# Altium integrated library mod_duo_x.IntLib: 41 symbols (part 1 of 2)
Pins are listed as number, name and electrical type; pins without a type are passive.

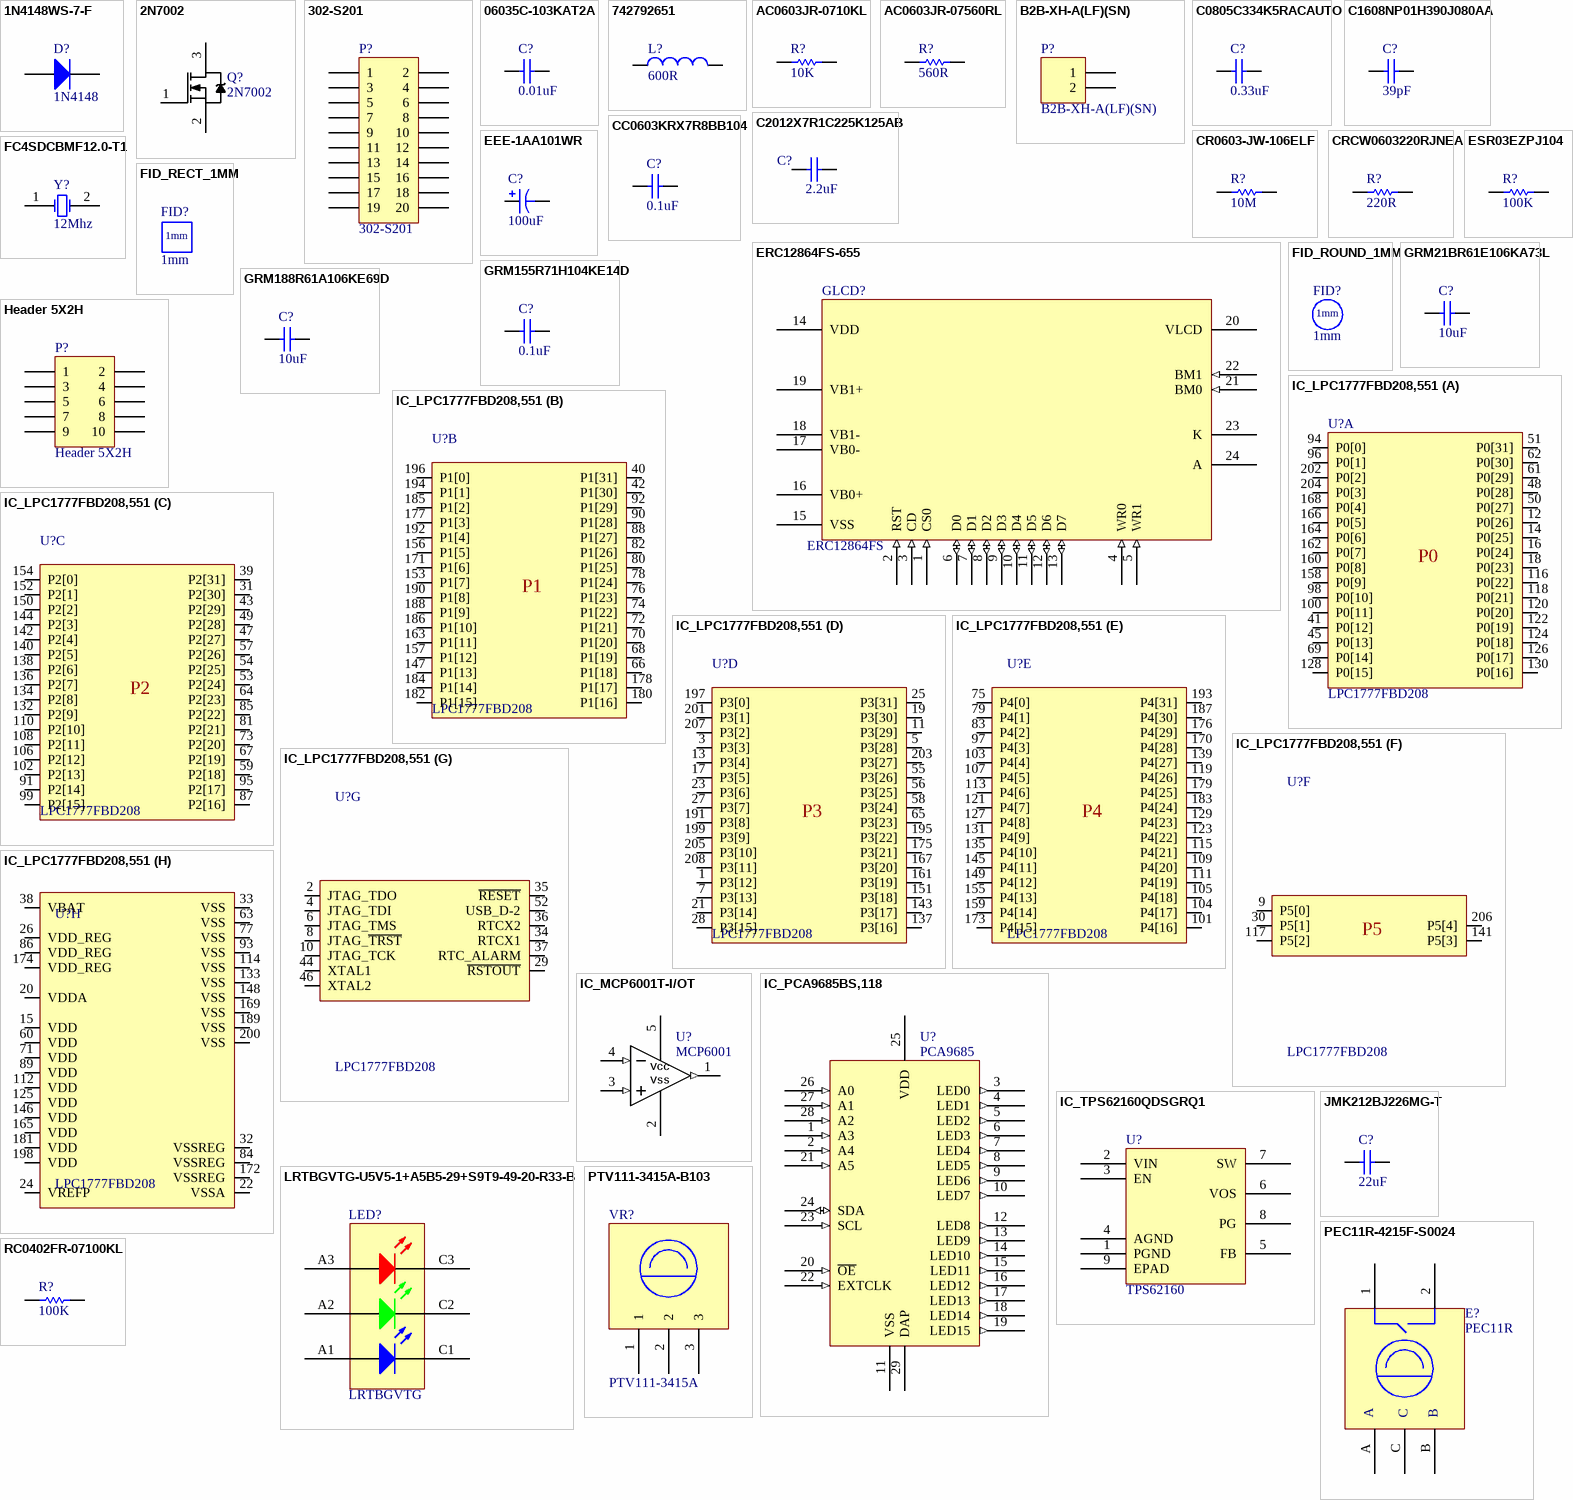
[diagram p0: symbols 1N4148WS-7-F to RC0402FR-07100KL]

## 1N4148WS-7-F
designator D?, comment 1N4148
DIODE SWITCHING 75V 0.15A SOD323; Manufacturer 1: Diodes; Manufacturer Part Number 1: 1N4148WS-7-F; Forward Current: 300mA; Reverse Recovery Time: 4ns; Element Configuration: Single; Forward Voltage: 1.25V; Peak Reverse Current: 1uA; Peak Non-Repetitive Surge Current: 2A; Average Rectified Current: 150mA; Power Dissipation: 200mW; Polarity: Standard; Capacitance: 2pF; Supplier 1: Digi-Key; Stock 1: 557451; Pricing 1: 1=0.19, 10=0.171, 100=0.0932, 500=0.05736, 1000=0.03911 (USD); Mount: Surface Mount; Number of Pins: 2; Weight: 0.000173oz; Contact Plating: Tin,Matte; Min Operating Temperature: -65°C; Max Operating Temperature: 150°C; Max Repetitive Reverse Voltage (Vrrm): 75V; Max Forward Surge Current (Ifsm): 2A; Max Surge Current: 2A; Packaging: Tape and Reel; Recovery Time: 4ns; Package Quantity: 3000; Voltage Rating (DC): 75V; Power Rating: 200mW; Current Rating: 150mA; Output Current: 150mA; Voltage: 75V; Max Reverse Voltage (DC): 75V; Current: 2A; Length: 1.8mm; Height: 1mm; Width: 1.4mm; Radiation Hardening: No; REACH SVHC: No SVHC; Lead Free: Lead Free; ComponentLink1URL: https://datasheet.ciiva.com/16199/ds30097-16199061.pdf; ComponentLink1Description: https://datasheet.ciiva.com/16199/ds30097-16199061.pdf; ComponentLink2URL: https://datasheet.ciiva.com/16472/ds30097-16472599.pdf; ComponentLink2Description: https://datasheet.ciiva.com/16472/ds30097-16472599.pdf; ComponentLink3URL: https://datasheet.ciiva.com/1179/ds30097-1179355.pdf; ComponentLink3Description: https://datasheet.ciiva.com/1179/ds30097-1179355.pdf; ComponentLink4URL: https://datasheet.ciiva.com/8300/ds30097-8300396.pdf; ComponentLink4Description: https://datasheet.ciiva.com/8300/ds30097-8300396.pdf; ComponentLink5URL: https://datasheet.ciiva.com/911/ds30097-911741.pdf; ComponentLink5Description: https://datasheet.ciiva.com/911/ds30097-911741.pdf; ComponentLink6URL: https://datasheet.ciiva.com/911/ds30097-911742.pdf; ComponentLink6Description: https://datasheet.ciiva.com/911/ds30097-911742.pdf; ComponentLink7URL: https://datasheet.ciiva.com/25946/ds30097-25946926.pdf; ComponentLink7Description: https://datasheet.ciiva.com/25946/ds30097-25946926.pdf; ComponentLink8URL: https://datasheet.ciiva.com/911/ds30097-911743.pdf; ComponentLink8Description: https://datasheet.ciiva.com/911/ds30097-911743.pdf; Supplier Part Number 1: 1N4148WS-FDICT-ND
footprint SOD-323
pins: 1 K, 2 A

## 2N7002
designator Q?
MOSFET N-CH 60V 115MA SOT-23; Manufacturer 1: ON Semiconductor / Fairchild; Max Power Dissipation: 200mW; Drain to Source Resistance: 1.2R; Gate to Source Voltage (Vgs): 20V; Nominal Vgs: 2.1V; Number of Elements: 1; Element Configuration: Single; Input Capacitance: 50pF; Rds On Max: 7.5R; On-State Resistance: 5.3R; Supplier 1: Digi-Key; Manufacturer Part Number 1: 2N7002; Stock 1: 111118; Pricing 1: 1=0.33, 10=0.304, 100=0.17, 500=0.09108, 1000=0.06193 (USD); Mount: Surface Mount; Case/Package: SOT-23; Number of Pins: 3; Contact Plating: Tin,Matte; Min Operating Temperature: -55°C; Max Operating Temperature: 150°C; Continuous Drain Current (ID): 115mA; Packaging: Tape and Reel; Package Quantity: 1; Drain to Source Voltage (Vdss): 60V; Drain to Source Breakdown Voltage: 60V; Power Dissipation: 200mW; Threshold Voltage: 2.1V; Voltage Rating (DC): 60V; Current Rating: 115mA; Dual Supply Voltage: 60V; Current: 115mA; Voltage: 60V; Length: 2.92mm; Height: 0.93mm; Width: 3.05mm; Radiation Hardening: No; REACH SVHC: No SVHC; Lead Free: Lead Free; ComponentLink1URL: https://datasheet.ciiva.com/931/2n7000-931777.pdf; ComponentLink1Description: https://datasheet.ciiva.com/931/2n7000-931777.pdf; ComponentLink2URL: https://datasheet.ciiva.com/27746/47-0120-27746881.pdf; ComponentLink2Description: https://datasheet.ciiva.com/27746/47-0120-27746881.pdf; ComponentLink3URL: https://datasheet.ciiva.com/1254/2n7002-1254451.pdf; ComponentLink3Description: https://datasheet.ciiva.com/1254/2n7002-1254451.pdf; ComponentLink4URL: https://datasheet.ciiva.com/15137/getdatasheetpartid-93547-15137771.pdf; ComponentLink4Description: https://datasheet.ciiva.com/15137/getdatasheetpartid-93547-15137771.pdf; ComponentLink5URL: https://datasheet.ciiva.com/931/2n7000-931762.pdf; ComponentLink5Description: https://datasheet.ciiva.com/931/2n7000-931762.pdf; ComponentLink6URL: https://datasheet.ciiva.com/931/2n7000-931763.pdf; ComponentLink6Description: https://datasheet.ciiva.com/931/2n7000-931763.pdf; ComponentLink7URL: https://datasheet.ciiva.com/931/2n7000-931764.pdf; ComponentLink7Description: https://datasheet.ciiva.com/931/2n7000-931764.pdf; ComponentLink8URL: https://datasheet.ciiva.com/1254/660093-1254452.pdf; ComponentLink8Description: https://datasheet.ciiva.com/1254/660093-1254452.pdf; ComponentLink9URL: https://datasheet.ciiva.com/1188/660093-1188359.pdf; ComponentLink9Description: https://datasheet.ciiva.com/1188/660093-1188359.pdf; ComponentLink10URL: https://datasheet.ciiva.com/1188/660093-1188361.pdf; ComponentLink10Description: https://datasheet.ciiva.com/1188/660093-1188361.pdf; ComponentLink11URL: https://datasheet.ciiva.com/17007/2n7002-17007243.pdf; ComponentLink11Description: https://datasheet.ciiva.com/17007/2n7002-17007243.pdf; ComponentLink12URL: https://datasheet.ciiva.com/3304/nds7002a-3304380.pdf; ComponentLink12Description: https://datasheet.ciiva.com/3304/nds7002a-3304380.pdf; ComponentLink13URL: https://datasheet.ciiva.com/3304/nds7002a-3304381.pdf; ComponentLink13Description: https://datasheet.ciiva.com/3304/nds7002a-3304381.pdf; ComponentLink14URL: https://datasheet.ciiva.com/22655/660093-22655230.pdf; ComponentLink14Description: https://datasheet.ciiva.com/22655/660093-22655230.pdf; Supplier Part Number 1: 2N7002NCT-ND
footprint SOT23-3N (SOT23, 3-Leads, Body 2.9x1.3mm, Pitch 0.95mm, Lead Span 2.5mm, IPC Medium Density)
pins: 1 G, 2 S, 3 D

## 302-S201
designator P?
CONN HEADER VERT 20POS GOLD; Manufacturer 1: On-Shore Technology; Number of Positions: 20; Connector Type: Male Pin; Pitch: 0.1inch; Supplier 1: Digi-Key; Manufacturer Part Number 1: 302-S201; Stock 1: 43732; Pricing 1: 1=0.47, 10=0.448, 160=0.31363, 640=0.2688, 1120=0.224, 5120=0.192, 10080=0.1792 (USD); Mount: Through Hole; Colour: Black; Contact Plating: Gold; Number of Rows: 2; Packaging: Tray; Termination: Solder; Row Spacing: 0.1inch; ComponentLink1URL: https://datasheet.ciiva.com/742/302-sxxx-742190.pdf; ComponentLink1Description: https://datasheet.ciiva.com/742/302-sxxx-742190.pdf; Supplier Part Number 1: ED10524-ND
footprint 302-S201
pins: 1, 2, 3, 4, 5, 6, 7, 8, 9, 10, 11, 12, 13, 14, 15, 16, 17, 18, 19, 20

## 06035C-103KAT2A
designator C?, comment 0.01uF
CAP CER 10000PF 50V X7R 0603; Manufacturer 1: Kyocera AVX; Manufacturer Part Number 1: 06035C-103KAT2A; Dielectric Material: Ceramic; Tolerance: 10%; Capacitance: 10nF; Dissipation Factor: 2.5%; Insulation Resistance: 100GR; Supplier 1: Digi-Key; Stock 1: 40000; Pricing 1: 1=0.1, 10=0.075, 100=0.0334, 500=0.02388, 1000=0.01877 (USD); Mount: Surface Mount,PCB; Case/Package: 0603; Number of Pins: 2; Case Code (Metric): 1608; Case Code (Imperial): 0603; Contact Plating: Tin,Matte; Min Operating Temperature: -55°C; Max Operating Temperature: 125°C; Dielectric: X7R; Voltage Rating (DC): 50V; Packaging: Tape and Reel; Voltage: 50V; Voltage Rating: 50V; Package Quantity: 1; Termination: SMD/SMT; Length: 1.6mm; Height: 0.9mm; Width: 0.032inch; Depth: 0.81mm; Thickness: 0.035inch; Radiation Hardening: No; REACH SVHC: No SVHC; Lead Free: Lead Free; ComponentLink1URL: https://datasheet.ciiva.com/1124/1679506-1124848.pdf; ComponentLink1Description: https://datasheet.ciiva.com/1124/1679506-1124848.pdf; ComponentLink2URL: https://datasheet.ciiva.com/2987/cx7r-2987824.pdf; ComponentLink2Description: https://datasheet.ciiva.com/2987/cx7r-2987824.pdf; ComponentLink3URL: https://datasheet.ciiva.com/150/cx7r-150227.pdf; ComponentLink3Description: https://datasheet.ciiva.com/150/cx7r-150227.pdf; ComponentLink4URL: https://datasheet.ciiva.com/150/cx7r-150228.pdf; ComponentLink4Description: https://datasheet.ciiva.com/150/cx7r-150228.pdf; ComponentLink5URL: https://datasheet.ciiva.com/150/cx7r-150229.pdf; ComponentLink5Description: https://datasheet.ciiva.com/150/cx7r-150229.pdf; ComponentLink6URL: https://datasheet.ciiva.com/16209/cx7r-16209238.pdf; ComponentLink6Description: https://datasheet.ciiva.com/16209/cx7r-16209238.pdf; ComponentLink7URL: https://datasheet.ciiva.com/15212/getdatasheetpartid-87506-15212295.pdf; ComponentLink7Description: https://datasheet.ciiva.com/15212/getdatasheetpartid-87506-15212295.pdf; ComponentLink8URL: https://datasheet.ciiva.com/5423/cx7r-218113-5423178.pdf; ComponentLink8Description: https://datasheet.ciiva.com/5423/cx7r-218113-5423178.pdf; ComponentLink9URL: https://datasheet.ciiva.com/7855/1679506-7855082.pdf; ComponentLink9Description: https://datasheet.ciiva.com/7855/1679506-7855082.pdf; ComponentLink10URL: https://datasheet.ciiva.com/14585/70001075-14585146.pdf; ComponentLink10Description: https://datasheet.ciiva.com/14585/70001075-14585146.pdf; ComponentLink11URL: https://datasheet.ciiva.com/25901/cx7r-25901100.pdf; ComponentLink11Description: https://datasheet.ciiva.com/25901/cx7r-25901100.pdf; ComponentLink12URL: https://datasheet.ciiva.com/1124/1679506-1124847.pdf; ComponentLink12Description: https://datasheet.ciiva.com/1124/1679506-1124847.pdf; ComponentLink13URL: https://datasheet.ciiva.com/2987/cx7r-2987823.pdf; ComponentLink13Description: https://datasheet.ciiva.com/2987/cx7r-2987823.pdf; Supplier Part Number 1: 478-1227-1-ND
footprint CAPC1608N (Chip Capacitor, Body 1.6x0.8mm, IPC Medium Density)
pins: 1, 2

## 742792651
designator L?, comment 600R
FERRITE BEAD 600 OHM 1.0A 0603; Manufacturer 1: Wurth Electronics; Manufacturer Part Number 1: 742792651; Tolerance: 25%; Current Rating: 1A; Number of Lines: 1; DC Resistance (DCR): 200mR; Test Frequency: 100MHz; Inductance: 0.36h; Supplier 1: Digi-Key; Description 1: FERRITE BEAD 600 OHM 1.0A 0603; Stock 1: 281795; Pricing 1: 1=0.17, 50=0.168, 100=0.155, 500=0.148, 1000=0.141, 2000=0.134 (USD); Mount: Surface Mount; Case/Package: SMD/SMT; Weight: 0.000141oz; Case Code (Metric): 1608; Case Code (Imperial): 0603; Material: Ferrite; Core Material: Ferrite; Min Operating Temperature: -55°C; Max Operating Temperature: 125°C; Package Quantity: 1; Packaging: Tape and Reel; Impedance: 600R; Max Current Rating: 1A; Max DC Current: 1A; Termination: SMD/SMT; Resistance: 200mR; Length: 1.6mm; Height: 0.8mm; Width: 0.8mm; Depth: 0.8mm; REACH SVHC: Unknown; Lead Free: Lead Free; ComponentLink1URL: https://datasheet.ciiva.com/11803/0900766b80d2e079-11803680.pdf; ComponentLink1Description: https://datasheet.ciiva.com/11803/0900766b80d2e079-11803680.pdf; ComponentLink2URL: https://datasheet.ciiva.com/1475/1705833-1475349.pdf; ComponentLink2Description: https://datasheet.ciiva.com/1475/1705833-1475349.pdf; ComponentLink3URL: https://datasheet.ciiva.com/1013/742792651-1013527.pdf; ComponentLink3Description: https://datasheet.ciiva.com/1013/742792651-1013527.pdf; ComponentLink4URL: https://datasheet.ciiva.com/4940/742792651-72243-4940492.pdf; ComponentLink4Description: https://datasheet.ciiva.com/4940/742792651-72243-4940492.pdf; ComponentLink5URL: https://datasheet.ciiva.com/1013/742792651-1013528.pdf; ComponentLink5Description: https://datasheet.ciiva.com/1013/742792651-1013528.pdf; ComponentLink6URL: https://datasheet.ciiva.com/1013/742792651-1013529.pdf; ComponentLink6Description: https://datasheet.ciiva.com/1013/742792651-1013529.pdf; ComponentLink7URL: https://datasheet.ciiva.com/22711/1705833-22711420.pdf; ComponentLink7Description: https://datasheet.ciiva.com/22711/1705833-22711420.pdf; Supplier Part Number 1: 732-1593-6-ND
footprint INDC1608N (Chip Inductor, Body 1.6x0.8mm, IPC Medium Density)
pins: 1, 2

## AC0603JR-0710KL
designator R?, comment 10K
RES SMD 10K OHM 5% 1/10W 0603; Manufacturer 1: Yageo; Manufacturer Part Number 1: AC0603JR-0710KL; Voltage Rating: 50V; Resistance: 10kR; Power Rating: 100mW; Temperature Coefficient: 100ppm/°C; Supplier 1: Digi-Key; Stock 1: 60451; Pricing 1: 1=0.1, 10=0.032, 100=0.0131, 1000=0.00588, 2500=0.0051 (USD); Case/Package: 0603; Case Code (Imperial): 0603; Case Code (Metric): 1608; Min Operating Temperature: -55°C; Max Operating Temperature: 155°C; Packaging: Tape and Reel; Tolerance: 5%; Package Quantity: 1; Composition: Thick Film; Termination: SMD/SMT; Number of Terminations: 2; Military Standard: Not; Max Power Dissipation: 100mW; Features: Moisture Resistant,Automotive AEC-Q200,Anti-Sulfur; Length: 0.063inch; Height: 0.022inch; Width: 0.031inch; Depth: 0.8mm; Lead Free: Lead Free; ComponentLink1URL: https://datasheet.ciiva.com/5562/pyu-ac-51-rohs-l-2-5562553.pdf; ComponentLink1Description: https://datasheet.ciiva.com/5562/pyu-ac-51-rohs-l-2-5562553.pdf; Supplier Part Number 1: 311-10KLECT-ND
footprint RESC1608N (Chip Resistor, Body 1.6x0.8mm, IPC Medium Density)
pins: 1, 2

## AC0603JR-07560RL
designator R?, comment 560R
RES SMD 560 OHM 5% 1/10W 0603; Manufacturer 1: Yageo; Manufacturer Part Number 1: AC0603JR-07560RL; Power Rating: 100mW; Voltage Rating: 50V; Temperature Coefficient: 100ppm/°C; Supplier 1: Digi-Key; Stock 1: 24630; Pricing 1: 1=0.1, 10=0.026, 100=0.0107, 1000=0.00478, 2500=0.00415 (USD); Case/Package: 0603; Case Code (Imperial): 0603; Case Code (Metric): 1608; Min Operating Temperature: -55°C; Max Operating Temperature: 155°C; Packaging: Tape and Reel; Resistance: 560R; Tolerance: 5%; Composition: Thick Film; Number of Terminations: 2; Termination: SMD/SMT; Max Power Dissipation: 100mW; Length: 0.063inch; Height: 0.022inch; Width: 0.031inch; ComponentLink1URL: http://www.yageo.com/NewPortal/yageodocoutput?fileName=/pdf/R-Chip/PYu-AC_51_RoHS_L_6.pdf; ComponentLink1Description: http://www.yageo.com/NewPortal/yageodocoutput?fileName=/pdf/R-Chip/PYu-AC_51_RoHS_L_6.pdf; ComponentLink2URL: http://www.mouser.com/ds/2/447/yageodocoutput-1111992.pdf; ComponentLink2Description: http://www.mouser.com/ds/2/447/yageodocoutput-1111992.pdf; Supplier Part Number 1: YAG3681CT-ND
footprint RESC1608N (Chip Resistor, Body 1.6x0.8mm, IPC Medium Density)
pins: 1, 2

## B2B-XH-A(LF)(SN)
designator P?
CONN HEADER XH TOP 2POS 2.5MM; Manufacturer 1: JST; Number of Positions: 2; Connector Type: Male Pin; Current Rating: 3A; Contact Resistance: 20mR; Voltage Rating: 250V; Insulation Resistance: 1GR; Wire/Cable Gauge: 22AWG; Supplier 1: Digi-Key; Manufacturer Part Number 1: B2B-XH-A(LF)(SN); Stock 1: 356617; Pricing 1: 1=0.15, 10=0.141, 100=0.0868, 500=0.07182, 1000=0.06284, 5000=0.05387, 10000=0.05237 (USD); Mount: Through Hole; Contact Plating: Copper,Tin,Lead; Colour: Natural; Contact Material: Brass; Housing Colour: White; Housing Material: Polyamide; Min Operating Temperature: -25°C; Max Operating Temperature: 85°C; Number of Rows: 1; Packaging: Bulk; Termination: Solder; Fastening Type: Detent; Max Current Rating: 3A; Voltage Rating (AC): 250V; Max Voltage Rating (AC): 250V; Number of Contacts: 2; Max Voltage Rating (DC): 250V; Orientation: Straight; Length: 7.4mm; Pitch: 2.5mm; Lead Pitch: 2.5mm; Depth: 5.75mm; REACH SVHC: No SVHC; Lead Free: Lead Free; ComponentLink1URL: https://datasheet.ciiva.com/26894/getdatasheetpartid-640357-26894434.pdf; ComponentLink1Description: https://datasheet.ciiva.com/26894/getdatasheetpartid-640357-26894434.pdf; ComponentLink2URL: https://datasheet.ciiva.com/11746/0900766b8082653e-11746979.pdf; ComponentLink2Description: https://datasheet.ciiva.com/11746/0900766b8082653e-11746979.pdf; ComponentLink3URL: https://datasheet.ciiva.com/26894/getdatasheetpartid-385291-26894760.pdf; ComponentLink3Description: https://datasheet.ciiva.com/26894/getdatasheetpartid-385291-26894760.pdf; ComponentLink4URL: https://datasheet.ciiva.com/8052/5448-8052024.pdf; ComponentLink4Description: https://datasheet.ciiva.com/8052/5448-8052024.pdf; ComponentLink5URL: https://datasheet.ciiva.com/20207/523653-20207167.pdf; ComponentLink5Description: https://datasheet.ciiva.com/20207/523653-20207167.pdf; Supplier Part Number 1: 455-2247-ND
footprint B2B-XH-A
pins: 1, 2

## C0805C334K5RACAUTO
designator C?, comment 0.33uF
CAP CER 0.33UF 50V X7R 0805; Manufacturer 1: Kemet; Manufacturer Part Number 1: C0805C334K5RACAUTO; Description 1: Multilayer Ceramic Capacitors MLCC - SMD/SMT 0.33uF 50volts 10% X7R; Capacitance - nF: 330 nF; Capacitance - pF: 330000 pF; Case Height: 0.9 mm; Case Length: 2 mm; Case Width: 1.2 mm; Class: Class 1; Tolerance: 10 %; Temperature Coefficient / Code: +/- 15 %; Type: SMD MLCC X7R 6.3 - 250 VDC Commerical Grade; Supplier 1: Digi-Key; Stock 1: 76; Pricing 1: 1=0.21, 10=0.142, 100=0.0721, 500=0.0493, 1000=0.0436 (USD); Brand: Kemet; Capacitance: 0.33 uF; Case Code - in: 0805; Case Code - mm: 2012; Dimensions: 1.2 mm W x 2 mm L x 0.9 mm H; Dielectric: X7R; Factory Pack Quantity: 4000; Voltage Rating: 50 V; Product Category: Multilayer Ceramic Capacitors MLCC - SMD/SMT; RoHS: Details; Voltage Rating DC: 50 V; Minimum Operating Temperature: - 55 C; Maximum Operating Temperature: + 125 C; Product: Automotive MLCCs; Operating Temperature Range: - 55 C to + 125 C; Package / Case: 0805 (2012 metric); Packaging: Reel; Series: C0805C; Termination Style: SMD/SMT; ComponentLink1URL: https://datasheet.ciiva.com/7842/1776105-7842326.pdf; ComponentLink1Description: https://datasheet.ciiva.com/7842/1776105-7842326.pdf; ComponentLink2URL: https://datasheet.ciiva.com/22705/1776105-22705463.pdf; ComponentLink2Description: https://datasheet.ciiva.com/22705/1776105-22705463.pdf; Supplier Part Number 1: 399-6959-1-ND; Supplier 2: Digi-Key; Supplier Part Number 2: 1276-1808-1-ND; Manufacturer 2: Samsung; Manufacturer Part Number 2: CL21B334KAFNNNE
footprint CAPC2012N (Chip Capacitor, Body 2.0x1.3mm, IPC Medium Density)
pins: 1, 2

## C1608NP01H390J080AA
designator C?, comment 39pF
CAP CER 39PF 50V NP0 0603; Manufacturer 1: TDK; Manufacturer Part Number 1: C1608NP01H390J080AA; Tolerance: 5%; Dielectric: C0G; Supplier 1: Digi-Key; Stock 1: 1503; Pricing 1: 1=0.15, 10=0.106, 100=0.05, 500=0.03508, 1000=0.02904 (USD); Mount: Surface Mount; Case/Package: 0603; Weight: 7.1E-05oz; Case Code (Metric): 1608; Case Code (Imperial): 0603; Min Operating Temperature: -55°C; Max Operating Temperature: 150°C; Package Quantity: 4000; Packaging: Tape and Reel; Capacitance: 39pF; Voltage Rating: 50V; Termination: SMD/SMT; Voltage Rating (DC): 50V; Length: 0.063inch; Height: 0.8mm; Width: 0.031inch; Thickness: 0.035inch; Supplier Part Number 1: 445-14077-1-ND
footprint CAPC1608N (Chip Capacitor, Body 1.6x0.8mm, IPC Medium Density)
pins: 1, 2

## C2012X7R1C225K125AB
designator C?, comment 2.2uF
CAP CER 2.2UF 16V X7R 0805; Manufacturer 1: TDK; Manufacturer Part Number 1: C2012X7R1C225K125AB; Dielectric Material: Ceramic; Tolerance: 10%; Supplier 1: Digi-Key; Stock 1: 20000; Pricing 1: 1=0.28, 10=0.194, 100=0.0983, 500=0.06728, 1000=0.05951 (USD); Mount: Surface Mount; Case/Package: 0805; Number of Pins: 2; Weight: 0.000194oz; Case Code (Imperial): 0805; Case Code (Metric): 2012; Min Operating Temperature: -55°C; Max Operating Temperature: 125°C; Capacitance: 2.2uF; Dielectric: X7R; Packaging: Tape and Reel; Package Quantity: 2000; Voltage Rating: 16V; Voltage Rating (DC): 16V; Termination: SMD/SMT; Voltage: 16V; Composition: Ceramic; Length: 2mm; Height: 1.25mm; Width: 1.25mm; Depth: 1.25mm; Thickness: 0.057inch; Radiation Hardening: No; REACH SVHC: No SVHC; Lead Free: Lead Free; ComponentLink1URL: https://datasheet.ciiva.com/24219/c2012x7r1c225k125ab-265065-24219730.pdf; ComponentLink1Description: https://datasheet.ciiva.com/24219/c2012x7r1c225k125ab-265065-24219730.pdf; ComponentLink2URL: https://datasheet.ciiva.com/11788/0900766b80c1bb00-11788135.pdf; ComponentLink2Description: https://datasheet.ciiva.com/11788/0900766b80c1bb00-11788135.pdf; ComponentLink3URL: https://datasheet.ciiva.com/26834/getdatasheetpartid-736487-26834421.pdf; ComponentLink3Description: https://datasheet.ciiva.com/26834/getdatasheetpartid-736487-26834421.pdf; ComponentLink4URL: https://datasheet.ciiva.com/16482/e412-c-16482422.pdf; ComponentLink4Description: https://datasheet.ciiva.com/16482/e412-c-16482422.pdf; ComponentLink5URL: https://datasheet.ciiva.com/6291/tdkmlcccaprange-6291383.pdf; ComponentLink5Description: https://datasheet.ciiva.com/6291/tdkmlcccaprange-6291383.pdf; ComponentLink6URL: https://datasheet.ciiva.com/6291/tdkmlcccaprange-6291384.pdf; ComponentLink6Description: https://datasheet.ciiva.com/6291/tdkmlcccaprange-6291384.pdf; ComponentLink7URL: https://datasheet.ciiva.com/22648/1796654-22648712.pdf; ComponentLink7Description: https://datasheet.ciiva.com/22648/1796654-22648712.pdf; ComponentLink8URL: https://datasheet.ciiva.com/6291/tdkmlcccaprange-6291450.pdf; ComponentLink8Description: https://datasheet.ciiva.com/6291/tdkmlcccaprange-6291450.pdf; ComponentLink9URL: https://datasheet.ciiva.com/22694/1796654-22694143.pdf; ComponentLink9Description: https://datasheet.ciiva.com/22694/1796654-22694143.pdf; Supplier Part Number 1: 445-1420-1-ND
footprint CAPC2012N (Chip Capacitor, Body 2.0x1.3mm, IPC Medium Density)
pins: 1, 2

## CC0603KRX7R8BB104
designator C?, comment 0.1uF
CAP CER 0.1UF 25V X7R 0603; Manufacturer 1: Yageo; Manufacturer Part Number 1: CC0603KRX7R8BB104; Capacitance: 100nF; Tolerance: 10%; Supplier 1: Digi-Key; Stock 1: 40000; Pricing 1: 1=0.1, 10=0.074, 100=0.0329, 500=0.02352, 1000=0.01848 (USD); Mount: Surface Mount; Case/Package: 0603; Number of Pins: 2; Case Code (Imperial): 0603; Case Code (Metric): 1608; Min Operating Temperature: -55°C; Max Operating Temperature: 125°C; Dielectric: X7R; Voltage Rating: 25V; Packaging: Tape and Reel; Package Quantity: 1; Voltage Rating (DC): 25V; Termination: SMD/SMT; Composition: Ceramic; Voltage: 25V; Length: 1.6mm; Height: 0.8mm; Width: 0.8mm; Thickness: 0.035inch; Depth: 0.8mm; Radiation Hardening: No; REACH SVHC: Unknown; Lead Free: Lead Free; Halogen Free: Halogen Free; ComponentLink1URL: https://datasheet.ciiva.com/11786/0900766b80c10176-11786120.pdf; ComponentLink1Description: https://datasheet.ciiva.com/11786/0900766b80c10176-11786120.pdf; ComponentLink2URL: https://datasheet.ciiva.com/144/mlccorderingcode-144075.pdf; ComponentLink2Description: https://datasheet.ciiva.com/144/mlccorderingcode-144075.pdf; ComponentLink3URL: https://datasheet.ciiva.com/17434/upy-gphc-x7r-6-3v-to-50v-8-17434263.pdf; ComponentLink3Description: https://datasheet.ciiva.com/17434/upy-gphc-x7r-6-3v-to-50v-8-17434263.pdf; ComponentLink4URL: https://datasheet.ciiva.com/26829/getdatasheetpartid-403577-26829431.pdf; ComponentLink4Description: https://datasheet.ciiva.com/26829/getdatasheetpartid-403577-26829431.pdf; ComponentLink5URL: https://datasheet.ciiva.com/11587/upy-gphc-x7r-6-3v-to-50v-8-11587208.pdf; ComponentLink5Description: https://datasheet.ciiva.com/11587/upy-gphc-x7r-6-3v-to-50v-8-11587208.pdf; ComponentLink6URL: https://datasheet.ciiva.com/13389/upy-gphc-x7r-6-3v-to-50v-8-13389352.pdf; ComponentLink6Description: https://datasheet.ciiva.com/13389/upy-gphc-x7r-6-3v-to-50v-8-13389352.pdf; ComponentLink7URL: https://datasheet.ciiva.com/28450/1489800-28450584.pdf; ComponentLink7Description: https://datasheet.ciiva.com/28450/1489800-28450584.pdf; ComponentLink8URL: https://datasheet.ciiva.com/144/mlccorderingcode-144073.pdf; ComponentLink8Description: https://datasheet.ciiva.com/144/mlccorderingcode-144073.pdf; ComponentLink9URL: https://datasheet.ciiva.com/144/mlccorderingcode-144074.pdf; ComponentLink9Description: https://datasheet.ciiva.com/144/mlccorderingcode-144074.pdf; ComponentLink10URL: https://datasheet.ciiva.com/7978/1489800-7978155.pdf; ComponentLink10Description: https://datasheet.ciiva.com/7978/1489800-7978155.pdf; Supplier Part Number 1: 311-1341-1-ND
footprint CAPC1608N (Chip Capacitor, Body 1.6x0.8mm, IPC Medium Density)
pins: 1, 2

## CR0603-JW-106ELF
designator R?, comment 10M
RES SMD 10M OHM 5% 1/10W 0603; Manufacturer 1: Bourns; Resistance: 10MR; Temperature Coefficient: 200ppm/°C; Power Rating: 100mW; Voltage Rating: 50V; Supplier 1: Digi-Key; Manufacturer Part Number 2: CR0603-JW-106ELF; Stock 1: 29967; Pricing 1: 1=0.1, 10=0.016, 100=0.0064, 1000=0.00289, 2500=0.0025 (USD); Mount: Surface Mount; Case/Package: 0603; Contact Plating: Tin; Case Code (Imperial): 0603; Case Code (Metric): 1608; Min Operating Temperature: -55°C; Max Operating Temperature: 155°C; Tolerance: 5%; Composition: Thick Film; Packaging: Tape and Reel; Package Quantity: 5000; Termination: SMD/SMT; Number of Terminations: 2; Max Power Dissipation: 100mW; Military Standard: Not; Length: 1.6mm; Height: 0.022inch; Width: 0.8mm; Thickness: 457um; Depth: 0.8mm; Radiation Hardening: No; ComponentLink1URL: https://datasheet.ciiva.com/9122/chpreztr-9122300.pdf; ComponentLink1Description: https://datasheet.ciiva.com/9122/chpreztr-9122300.pdf; ComponentLink2URL: https://datasheet.ciiva.com/18605/chpreztr-18605117.pdf; ComponentLink2Description: https://datasheet.ciiva.com/18605/chpreztr-18605117.pdf; ComponentLink3URL: https://datasheet.ciiva.com/18605/chpreztr-18605118.pdf; ComponentLink3Description: https://datasheet.ciiva.com/18605/chpreztr-18605118.pdf; ComponentLink4URL: https://datasheet.ciiva.com/18605/chpreztr-18605119.pdf; ComponentLink4Description: https://datasheet.ciiva.com/18605/chpreztr-18605119.pdf; Supplier Part Number 1: CR0603-JW-106ELFCT-ND
footprint RESC1608N (Chip Resistor, Body 1.6x0.8mm, IPC Medium Density)
pins: 1, 2

## CRCW0603220RJNEA
designator R?, comment 220R
RES SMD 220 OHM 5% 1/10W 0603; Manufacturer 1: Vishay; Manufacturer Part Number 1: CRCW0603220RJNEA; Power Rating: 100mW; Temperature Coefficient: 200ppm/°C; Voltage Rating: 75V; Supplier 1: Digi-Key; Stock 1: 284000; Pricing 1: 1=0.1, 10=0.031, 100=0.0125, 1000=0.00563, 2500=0.00488 (USD); Mount: Surface Mount; Case/Package: 0603; Weight: 7.1E-05oz; Case Code (Metric): 1608; Case Code (Imperial): 0603; Contact Plating: Tin; Min Operating Temperature: -55°C; Max Operating Temperature: 155°C; Resistance: 220R; Tolerance: 5%; Packaging: Tape and Reel; Composition: Thick Film; Package Quantity: 1; Number of Terminations: 2; Max Power Dissipation: 100mW; Military Standard: Not; Termination: SMD/SMT; Features: Automotive AEC-Q200; Working Voltage: 75V; Length: 1.55mm; Height: 0.45mm; Width: 0.033inch; Depth: 0.85mm; Radiation Hardening: No; REACH SVHC: Unknown; ComponentLink1URL: https://datasheet.ciiva.com/2524/dcrcwe3-2524384.pdf; ComponentLink1Description: https://datasheet.ciiva.com/2524/dcrcwe3-2524384.pdf; ComponentLink2URL: https://datasheet.ciiva.com/2524/dcrcwe3-2524385.pdf; ComponentLink2Description: https://datasheet.ciiva.com/2524/dcrcwe3-2524385.pdf; ComponentLink3URL: https://datasheet.ciiva.com/2524/dcrcwe3-2524386.pdf; ComponentLink3Description: https://datasheet.ciiva.com/2524/dcrcwe3-2524386.pdf; ComponentLink4URL: https://datasheet.ciiva.com/8339/dcrcwe3-8339958.pdf; ComponentLink4Description: https://datasheet.ciiva.com/8339/dcrcwe3-8339958.pdf; ComponentLink5URL: https://datasheet.ciiva.com/22869/70201119-22869142.pdf; ComponentLink5Description: https://datasheet.ciiva.com/22869/70201119-22869142.pdf; ComponentLink6URL: https://datasheet.ciiva.com/46448/1807946-46448601.pdf; ComponentLink6Description: https://datasheet.ciiva.com/46448/1807946-46448601.pdf; ComponentLink7URL: https://datasheet.ciiva.com/5550/dcrcwe3-109170-5550730.pdf; ComponentLink7Description: https://datasheet.ciiva.com/5550/dcrcwe3-109170-5550730.pdf; Supplier Part Number 1: 541-220GCT-ND
footprint RESC1608N (Chip Resistor, Body 1.6x0.8mm, IPC Medium Density)
pins: 1, 2

## EEE-1AA101WR
designator C?, comment 100uF
CAP ALUM 100UF 20% 10V SMD; Manufacturer 1: Panasonic ECG; Manufacturer Part Number 1: EEE-1AA101WR; Description 1: Cap Aluminum Lytic 100uF 10V 20% (5 X 5.4mm) SMD 50mA 1000h 85C Automotive T/R; Ripple Current: 50mA; Life (Hours): 1000Hour; Supplier 1: Digi-Key; Stock 1: 122621; Pricing 1: 1=0.31, 10=0.212, 100=0.1272, 500=0.0954 (USD); Mount: Surface Mount,PCB; Case/Package: Radial; Contact Plating: Tin; Min Operating Temperature: -40°C; Max Operating Temperature: 85°C; Capacitance: 100uF; Tolerance: 20%; Voltage Rating: 10V; Packaging: Tape and Reel; Package Quantity: 1; Voltage Rating (DC): 10V; Termination: SMD/SMT; Ripple Current (AC): 50mA; Diameter: 5mm; Length: 5.5mm; Height: 5.4mm; Height - Seated (Max): 0.213inch; Radiation Hardening: No; Lead Free: Lead Free; REACH SVHC: Unknown; ComponentLink1URL: https://datasheet.ciiva.com/26945/getdatasheetpartid-169213-26945071.pdf; ComponentLink1Description: https://datasheet.ciiva.com/26945/getdatasheetpartid-169213-26945071.pdf; ComponentLink2URL: https://datasheet.ciiva.com/2983/aba0000ce2-2983906.pdf; ComponentLink2Description: https://datasheet.ciiva.com/2983/aba0000ce2-2983906.pdf; ComponentLink3URL: https://datasheet.ciiva.com/24027/aba0000ce2-40801-24027541.pdf; ComponentLink3Description: https://datasheet.ciiva.com/24027/aba0000ce2-40801-24027541.pdf; ComponentLink4URL: https://datasheet.ciiva.com/30075/11aba0000ce2-30075303.pdf; ComponentLink4Description: https://datasheet.ciiva.com/30075/11aba0000ce2-30075303.pdf; ComponentLink5URL: https://datasheet.ciiva.com/16427/aba0000ce2-16427544.pdf; ComponentLink5Description: https://datasheet.ciiva.com/16427/aba0000ce2-16427544.pdf; ComponentLink6URL: https://datasheet.ciiva.com/14598/70255710-14598233.pdf; ComponentLink6Description: https://datasheet.ciiva.com/14598/70255710-14598233.pdf; ComponentLink7URL: https://datasheet.ciiva.com/14605/70255710-14605689.pdf; ComponentLink7Description: https://datasheet.ciiva.com/14605/70255710-14605689.pdf; ComponentLink8URL: https://datasheet.ciiva.com/11673/aba0000ce2-11673882.pdf; ComponentLink8Description: https://datasheet.ciiva.com/11673/aba0000ce2-11673882.pdf; Supplier Part Number 1: PCE3867CT-ND
footprint CAPAE6553X55M (Aluminum Electrolytic Capacitor, Body 5.30x5.30x5.50mm, IPC Low Density)
pins: 1, 2

## ERC12864FS-655
designator GLCD?, comment ERC12864FS
SERIAL SPI 2.8"GLCD 128x64 UC1701 CONTROLLER; Manufacturer 1: EastRising; Manufacturer Part Number 1: ERC12864FS-655; Supplier 1: EastRising; Supplier Part Number 1: ERC12864FS-655
footprint ERC12864FS
pins: 1 CS0 (in), 2 RST (in), 3 CD (in), 4 WR0 (in), 5 WR1 (in), 6 D0 (io), 7 D1 (io), 8 D2 (io), 9 D3 (io), 10 D4 (io), 11 D5 (io), 12 D6 (io), 13 D7 (io), 14 VDD (power), 15 VSS (power), 16 VB0+, 17 VB0-, 18 VB1-, 19 VB1+, 20 VLCD (power), 21 BM0 (in), 22 BM1 (in), 23 K, 24 A

## ESR03EZPJ104
designator R?, comment 100K
RES SMD 100K OHM 5% 1/4W 0603; Manufacturer 1: Rohm; Manufacturer Part Number 1: ESR03EZPJ104; Resistance: 100kR; Power Rating: 200mW; Max Power Dissipation: 250mW; Temperature Coefficient: 200ppm/°C; Supplier 1: Digi-Key; Stock 1: 17901; Pricing 1: 1=0.1, 10=0.087, 100=0.0333, 1000=0.01464, 2500=0.01264 (USD); Case/Package: 0603; Case Code (Metric): 1608; Case Code (Imperial): 0603; Min Operating Temperature: -55°C; Max Operating Temperature: 155°C; Tolerance: 5%; Package Quantity: 1; Packaging: Cut Tape; Composition: Thick Film; Number of Terminations: 2; Length: 0.063inch; Height: 0.022inch; Width: 0.031inch; Lead Free: Lead Free; ComponentLink1URL: https://datasheet.ciiva.com/14930/esr-14930633.pdf; ComponentLink1Description: https://datasheet.ciiva.com/14930/esr-14930633.pdf; ComponentLink2URL: https://datasheet.ciiva.com/14924/esr-14924811.pdf; ComponentLink2Description: https://datasheet.ciiva.com/14924/esr-14924811.pdf; ComponentLink3URL: https://datasheet.ciiva.com/14928/esr-14928813.pdf; ComponentLink3Description: https://datasheet.ciiva.com/14928/esr-14928813.pdf; Supplier Part Number 1: RHM100KDCT-ND
footprint RESC1608N (Chip Resistor, Body 1.6x0.8mm, IPC Medium Density)
pins: 1, 2

## FC4SDCBMF12.0-T1
designator Y?, comment 12Mhz
CRYSTAL 12.0000MHZ 20PF SMD; Manufacturer 1: Fox Electronics; Manufacturer Part Number 1: FC4SDCBMF12.0-T1; Supplier 1: Digi-Key; Stock 1: 37233; Pricing 1: 1=0.32, 10=0.263, 50=0.2364, 100=0.2102, 500=0.1997 (USD); Supplier Part Number 1: 631-1013-1-ND
footprint CRYSTAL_HC49SDLF
pins: 1 OSC1, 2 OSC2

## FID_RECT_1MM
designator FID?, comment 1mm
FIDUCIAL RECTANGLE 1MM-2MM
footprint FID_1X2MM_R

## FID_ROUND_1MM
designator FID?, comment 1mm
FIDUCIAL ROUND 1MM-2MM
footprint FID_1X2MM_C

## GRM21BR61E106KA73L
designator C?, comment 10uF
CAP CER 10UF 25V X5R 0805; Manufacturer 1: Murata; Manufacturer Part Number 1: GRM21BR61E106KA73L; Product Training Modules: High-Cap Multilayer Ceramic Capacitors; Catalog Drawings: GRM Series_0805_1.25; Capacitance: 10µF; Tolerance: ±10%; Online Catalog: GRM Series; Other Names: 490-5523-6; Supplier 1: Digi-Key; Description 1: CAP CER 10UF 25V X5R 0805; Stock 1: 1948894; Pricing 1: 1=0.22, 10=0.159, 100=0.0748, 500=0.0524, 1000=0.0434 (USD); Standard Package: 1; Category: Capacitors; Family: Ceramic Capacitors; Series: GRM; Packaging: Digi-Reel®; Voltage - Rated: 25V; Temperature Coefficient: X5R; Mounting Type: Surface Mount, MLCC; Operating Temperature: -55°C ~ 85°C; Applications: General Purpose; Ratings: -; Package / Case: 0805 (2012 Metric); Size / Dimension: 0.079" L x 0.049" W (2.00mm x 1.25mm); Height - Seated (Max): -; Thickness (Max): 0.053" (1.35mm); Lead Spacing: -; Features: -; Lead Style: -; ComponentLink1URL: https://datasheet.ciiva.com/16440/grm21br61e106ka73l-16440627.pdf; ComponentLink1Description: https://datasheet.ciiva.com/16440/grm21br61e106ka73l-16440627.pdf; ComponentLink2URL: https://datasheet.ciiva.com/5424/product-5424327.pdf; ComponentLink2Description: https://datasheet.ciiva.com/5424/product-5424327.pdf; ComponentLink3URL: https://datasheet.ciiva.com/22774/1747469-22774396.pdf; ComponentLink3Description: https://datasheet.ciiva.com/22774/1747469-22774396.pdf; ComponentLink4URL: https://datasheet.ciiva.com/28584/626718-28584288.pdf; ComponentLink4Description: https://datasheet.ciiva.com/28584/626718-28584288.pdf; ComponentLink5URL: https://datasheet.ciiva.com/29199/454623-da-01-en-vs-kondensator-0805-29199615.pdf; ComponentLink5Description: https://datasheet.ciiva.com/29199/454623-da-01-en-vs-kondensator-0805-29199615.pdf; ComponentLink6URL: https://datasheet.ciiva.com/139/partnumbering-e-01-139184.pdf; ComponentLink6Description: https://datasheet.ciiva.com/139/partnumbering-e-01-139184.pdf; ComponentLink7URL: https://datasheet.ciiva.com/139/partnumbering-e-01-139182.pdf; ComponentLink7Description: https://datasheet.ciiva.com/139/partnumbering-e-01-139182.pdf; ComponentLink8URL: https://datasheet.ciiva.com/139/partnumbering-e-01-139183.pdf; ComponentLink8Description: https://datasheet.ciiva.com/139/partnumbering-e-01-139183.pdf; ComponentLink9URL: https://datasheet.ciiva.com/7719/1747469-7719093.pdf; ComponentLink9Description: https://datasheet.ciiva.com/7719/1747469-7719093.pdf; ComponentLink10URL: https://datasheet.ciiva.com/28584/626718-28584279.pdf; ComponentLink10Description: https://datasheet.ciiva.com/28584/626718-28584279.pdf; ComponentLink11URL: https://datasheet.ciiva.com/14116/grmseries-highdielectrictype-eng-14116376.pdf; ComponentLink11Description: https://datasheet.ciiva.com/14116/grmseries-highdielectrictype-eng-14116376.pdf; Supplier Part Number 1: 490-5523-1-ND
footprint CAPC2012N (Chip Capacitor, Body 2.0x1.3mm, IPC Medium Density)
pins: 1, 2

## GRM155R71H104KE14D
designator C?, comment 0.1uF
CAP CER 0.1UF 50V X7R 0402; Manufacturer 1: Murata; Manufacturer Part Number 1: GRM155R71H104KE14D; Description 1: Cap Ceramic 0.1uF 50V X7R 10% SMD 0402 125C Paper T/R; Voltage Rating DC: 50 VDC; Tolerance: 10 %; Brand: Murata Electronics; Capacitance - nF: 100 nF; Capacitance - pF: 100000 pF; Class: Class 2; Type: General Purpose Ceramic Capacitors; Unit Weight: 0.000212 oz; Supplier 1: Digi-Key; Stock 1: 0; Pricing 1: 1=0.1, 10=0.022, 100=0.0099, 500=0.0071, 1000=0.0056, 2500=0.0051, 5000=0.0047 (USD); Product Category: Multilayer Ceramic Capacitors MLCC - SMD/SMT; RoHS: True; Capacitance: 0.1 uF; Dielectric: X7R; Case Code - in: 0402; Case Code - mm: 1005; Height: 0.5 mm; Maximum Operating Temperature: + 125 C; Minimum Operating Temperature: - 55 C; Product: General Type MLCCs; Series: GRM; Packaging: Reel; Length: 1 mm; Package / Case: 0402 (1005 metric); Factory Pack Quantity: 10000; Termination Style: SMD/SMT; Width: 0.5 mm; ComponentLink1URL: http://components.arrow.com/part/dataview/0323_07030614; ComponentLink1Description: http://components.arrow.com/part/dataview/0323_07030614; ComponentLink2URL: http://psearch.en.murata.com/capacitor/product/GRM155R71H104KE14%23.pdf; ComponentLink2Description: http://psearch.en.murata.com/capacitor/product/GRM155R71H104KE14%23.pdf; ComponentLink3URL: http://www.mouser.com/ds/2/281/c02e-2905.pdf; ComponentLink3Description: http://www.mouser.com/ds/2/281/c02e-2905.pdf; ComponentLink4URL: http://search.murata.co.jp/Ceramy/image/img/A01X/partnumbering_e_01.pdf; ComponentLink4Description: http://search.murata.co.jp/Ceramy/image/img/A01X/partnumbering_e_01.pdf; ComponentLink5URL: http://www.farnell.com/datasheets/2079156.pdf; ComponentLink5Description: http://www.farnell.com/datasheets/2079156.pdf; Supplier Part Number 1: 490-10700-1-ND
footprint CAPC1005N (Chip Capacitor, Body 1.0x0.5mm, IPC Medium Density)
pins: 1, 2

## GRM188R61A106KE69D
designator C?, comment 10uF
CAP CER 10UF 10V X5R 0603; Manufacturer 1: Murata; Manufacturer Part Number 1: GRM188R61A106KE69D; Tolerance: 10%; Supplier 1: Digi-Key; Stock 1: 40000; Pricing 1: 1=0.22, 10=0.149, 100=0.0754, 500=0.05158, 1000=0.04563 (USD); Mount: Surface Mount; Case/Package: 0603; Case Code (Metric): 1608; Case Code (Imperial): 0603; Min Operating Temperature: -55°C; Max Operating Temperature: 85°C; Capacitance: 10uF; Packaging: Tape and Reel; Dielectric: X5R; Voltage Rating: 10V; Voltage: 10V; Voltage Rating (DC): 10V; Length: 1.6mm; Height: 0.8mm; Width: 0.031inch; Thickness: 0.037inch; Depth: 0.8mm; REACH SVHC: No SVHC; Lead Free: Lead Free; Supplier Part Number 1: 490-10474-1-ND
footprint CAPC1608N (Chip Capacitor, Body 1.6x0.8mm, IPC Medium Density)
pins: 1, 2

## Header 5X2H
designator P?
Header, 5-Pin, Dual row, Right Angle; LatestRevisionDate: 17-Jul-2002; LatestRevisionNote: Re-released for DXP Platform.; Publisher: Altium Limited
signal-integrity model Connector
footprint HDR2x5_1P27
pins: 1, 2, 3, 4, 5, 6, 7, 8, 9, 10

## IC_LPC1777FBD208,551
designator U?, comment LPC1777FBD208
IC MCU 32BIT 512KB FLASH 208LQFP; Manufacturer 1: NXP Semiconductors; Manufacturer Part Number 1: LPC1777FBD208,551; Min Supply Voltage: 2.4V; Max Supply Voltage: 3.6V; RAM Size: 96KB; Max Power Dissipation: 1.5W; Interface: CAN,EBI/EMI,I2C,I2S,MMC,SPI,SSP,UART,USART,USB; Number of I/Os: 165; Number of Timers/Counters: 4; Number of ADC Channels: 8; Operating Supply Voltage: 3.3V; Number of PWM Channels: 6; Frequency: 120MHz; Number of UART Channels: 5; Oscillator Type: Internal; Data Bus Width: 32b; Number of SPI Channels: 3; Watchdog Timer: Yes; Peripherals: Brown-out Detect/Reset,DMA,I2C,POR,PWM,WDT; Core Architecture: ARM; Supplier 1: Digi-Key; Stock 1: 106; Pricing 1: 1=11.31, 36=9.96583, 108=8.78083, 504=7.81115, 1008=7.16471 (USD); Mount: Surface Mount; Case/Package: LQFP; Number of Pins: 208; Min Operating Temperature: -40°C; Max Operating Temperature: 85°C; Package Quantity: 36; Packaging: Tray; Number of Programmable I/O: 165; Max Frequency: 120MHz; Number of I2C Channels: 3; Memory Type: FLASH; Memory Size: 512KB; Length: 28.1mm; Height: 1.45mm; Width: 28.1mm; Radiation Hardening: No; REACH SVHC: No SVHC; Lead Free: Lead Free; ComponentLink1URL: http://www.farnell.com/datasheets/1859465.pdf; ComponentLink1Description: http://www.farnell.com/datasheets/1859465.pdf; ComponentLink2URL: http://www.nxp.com/documents/data_sheet/LPC178X_7X.pdf; ComponentLink2Description: http://www.nxp.com/documents/data_sheet/LPC178X_7X.pdf; Supplier Part Number 1: 568-7570-ND
footprint LQFP-208
part A pins: 12 P0[26], 14 P0[25], 16 P0[24], 18 P0[23], 41 P0[12], 45 P0[13], 48 P0[28], 50 P0[27], 51 P0[31], 61 P0[29], 62 P0[30], 69 P0[14], 94 P0[0], 96 P0[1], 98 P0[10], 100 P0[11], 116 P0[22], 118 P0[21], 120 P0[20], 122 P0[19], 124 P0[18], 126 P0[17], 128 P0[15], 130 P0[16], 158 P0[9], 160 P0[8], 162 P0[7], 164 P0[6], 166 P0[5], 168 P0[4], 202 P0[2], 204 P0[3]
part B pins: 40 P1[31], 42 P1[30], 66 P1[18], 68 P1[19], 70 P1[20], 72 P1[21], 74 P1[22], 76 P1[23], 78 P1[24], 80 P1[25], 82 P1[26], 88 P1[27], 90 P1[28], 92 P1[29], 147 P1[13], 153 P1[7], 156 P1[5], 157 P1[12], 163 P1[11], 171 P1[6], 177 P1[3], 178 P1[17], 180 P1[16], 182 P1[15], 184 P1[14], 185 P1[2], 186 P1[10], 188 P1[9], 190 P1[8], 192 P1[4], 194 P1[1], 196 P1[0]
part C pins: 31 P2[30], 39 P2[31], 43 P2[29], 47 P2[27], 49 P2[28], 53 P2[24], 54 P2[25], 57 P2[26], 59 P2[18], 64 P2[23], 67 P2[19], 73 P2[20], 81 P2[21], 85 P2[22], 87 P2[16], 91 P2[14], 95 P2[17], 99 P2[15], 102 P2[13], 106 P2[12], 108 P2[11], 110 P2[10], 132 P2[9], 134 P2[8], 136 P2[7], 138 P2[6], 140 P2[5], 142 P2[4], 144 P2[3], 150 P2[2], 152 P2[1], 154 P2[0]
part D pins: 1 P3[12], 3 P3[3], 5 P3[28], 7 P3[13], 11 P3[29], 13 P3[4], 17 P3[5], 19 P3[30], 21 P3[14], 23 P3[6], 25 P3[31], 27 P3[7], 28 P3[15], 55 P3[26], 56 P3[25], 58 P3[24], 65 P3[23], 137 P3[16], 143 P3[17], 151 P3[18], 161 P3[19], 167 P3[20], 175 P3[21], 191 P3[8], 195 P3[22], 197 P3[0], 199 P3[9], 201 P3[1], 203 P3[27], 205 P3[10], 207 P3[2], 208 P3[11]
part E pins: 75 P4[0], 79 P4[1], 83 P4[2], 97 P4[3], 101 P4[16], 103 P4[4], 104 P4[17], 105 P4[18], 107 P4[5], 109 P4[20], 111 P4[19], 113 P4[6], 115 P4[21], 119 P4[26], 121 P4[7], 123 P4[22], 127 P4[8], 129 P4[23], 131 P4[9], 135 P4[10], 139 P4[27], 145 P4[11], 149 P4[12], 155 P4[13], 159 P4[14], 170 P4[28], 173 P4[15], 176 P4[29], 179 P4[25], 183 P4[24], 187 P4[30], 193 P4[31]
part F pins: 9 P5[0], 30 P5[1], 117 P5[2], 141 P5[3], 206 P5[4]
part G pins: 2 JTAG_TDO, 4 JTAG_TDI, 6 JTAG_TMS, 8 JTAG_~{TRST}, 10 JTAG_TCK, 29 ~{RSTOUT}, 34 RTCX1, 35 ~{RESET}, 36 RTCX2, 37 RTC_ALARM, 44 XTAL1, 46 XTAL2, 52 USB_D-2
part H pins: 15 VDD, 20 VDDA, 22 VSSA, 24 VREFP, 26 VDD_REG, 32 VSSREG, 33 VSS, 38 VBAT, 60 VDD, 63 VSS, 71 VDD, 77 VSS, 84 VSSREG, 86 VDD_REG, 89 VDD, 93 VSS, 112 VDD, 114 VSS, 125 VDD, 133 VSS, 146 VDD, 148 VSS, 165 VDD, 169 VSS, 172 VSSREG, 174 VDD_REG, 181 VDD, 189 VSS, 198 VDD, 200 VSS
part A text: P0
part B text: P1
part C text: P2
part D text: P3
part E text: P4
part F text: P5

## IC_MCP6001T-I/OT
designator U?, comment MCP6001
IC OPAMP GP 1MHZ RRO SOT23-5; Manufacturer 1: Microchip; Manufacturer Part Number 1: MCP6001T-I/OT; Voltage Gain: 112dB; Min Supply Voltage: 1.8V; Max Supply Voltage: 6V; Common Mode Rejection Ratio: 60dB; Operating Supply Voltage: 5.5V; Slew Rate: 0.6V/µs; Nominal Supply Current: 100uA; Number of Channels: 1; Output Current: 23mA; Input Bias Current: 1pA; Input Offset Voltage (Vos): 4.5mV; Power Supply Rejection Ratio (PSRR): 86dB; Supplier 1: Digi-Key; Stock 1: 3412; Pricing 1: 1=0.25, 25=0.206 (USD); Mount: Surface Mount; Case/Package: SOT-23; Number of Pins: 5; Contact Plating: Tin,Matte; Min Operating Temperature: -40°C; Max Operating Temperature: 85°C; Gain Bandwidth Product: 1MHz; Packaging: Tape and Reel; Bandwidth: 1MHz; Unity Gain Bandwidth Product: 1MHz; Package Quantity: 1; Number of Circuits: 1; Operating Supply Current: 100uA; Output Current per Channel: 23mA; Number of Elements: 1; Number of Amplifiers: 1; Voltage: 6V; Length: 3.1mm; Height: 1.3mm; Width: 1.8mm; Radiation Hardening: No; REACH SVHC: No SVHC; Lead Free: Lead Free; ComponentLink1URL: https://datasheet.ciiva.com/1793/21733j-1793040.pdf; ComponentLink1Description: https://datasheet.ciiva.com/1793/21733j-1793040.pdf; ComponentLink2URL: https://datasheet.ciiva.com/16199/filehandler-aspxddocname-en011705-16199408.pdf; ComponentLink2Description: https://datasheet.ciiva.com/16199/filehandler-aspxddocname-en011705-16199408.pdf; ComponentLink3URL: https://datasheet.ciiva.com/26344/651487-da-01-en-ic-opamp-mcp6001t-i-ot-sot-23-5-mcp-26344500.pdf; ComponentLink3Description: https://datasheet.ciiva.com/26344/651487-da-01-en-ic-opamp-mcp6001t-i-ot-sot-23-5-mcp-26344500.pdf; ComponentLink4URL: https://datasheet.ciiva.com/1793/21733j-1793041.pdf; ComponentLink4Description: https://datasheet.ciiva.com/1793/21733j-1793041.pdf; ComponentLink5URL: https://datasheet.ciiva.com/1793/21733j-1793042.pdf; ComponentLink5Description: https://datasheet.ciiva.com/1793/21733j-1793042.pdf; ComponentLink6URL: https://datasheet.ciiva.com/16796/jp011705-16796421.pdf; ComponentLink6Description: https://datasheet.ciiva.com/16796/jp011705-16796421.pdf; ComponentLink7URL: https://datasheet.ciiva.com/8078/524878-8078826.pdf; ComponentLink7Description: https://datasheet.ciiva.com/8078/524878-8078826.pdf; ComponentLink8URL: https://datasheet.ciiva.com/14544/70045422-14544795.pdf; ComponentLink8Description: https://datasheet.ciiva.com/14544/70045422-14544795.pdf; ComponentLink9URL: https://datasheet.ciiva.com/8078/524878-8078829.pdf; ComponentLink9Description: https://datasheet.ciiva.com/8078/524878-8078829.pdf; ComponentLink10URL: https://datasheet.ciiva.com/14151/mcp6001-2-4-eng-tds-14151487.pdf; ComponentLink10Description: https://datasheet.ciiva.com/14151/mcp6001-2-4-eng-tds-14151487.pdf; Supplier Part Number 1: MCP6001T-I/OTCT-ND
footprint SOT23-5N
pins: 1 OUT (out), 2 VSS (power), 3 IN+ (in), 4 IN- (in), 5 VCC (power)
text: Vcc; Vss

## IC_PCA9685BS,118
designator U?, comment PCA9685
IC LED DRVR LIN DIM 25MA 28HVQFN; Manufacturer 1: NXP Semiconductors; Manufacturer Part Number 1: PCA9685BS,118; Number of Outputs: 16; Frequency: 50MHz; Output Voltage: 5.5V; Supplier 1: Digi-Key; Stock 1: 4307; Pricing 1: 1=2.46, 10=2.205, 100=1.7727, 500=1.45642, 1000=1.20675 (USD); Mount: Surface Mount; Case/Package: VQFN; Number of Pins: 28; Contact Plating: Gold; Min Operating Temperature: -40°C; Max Operating Temperature: 85°C; Packaging: Tape and Reel; Package Quantity: 1; Radiation Hardening: No; ComponentLink1URL: https://datasheet.ciiva.com/12278/pca9685-62190-12278354.pdf; ComponentLink1Description: https://datasheet.ciiva.com/12278/pca9685-62190-12278354.pdf; ComponentLink2URL: https://datasheet.ciiva.com/8125/pca9685-8125351.pdf; ComponentLink2Description: https://datasheet.ciiva.com/8125/pca9685-8125351.pdf; ComponentLink3URL: https://datasheet.ciiva.com/1945/pca9685-1945099.pdf; ComponentLink3Description: https://datasheet.ciiva.com/1945/pca9685-1945099.pdf; ComponentLink4URL: https://datasheet.ciiva.com/1945/pca9685-1945100.pdf; ComponentLink4Description: https://datasheet.ciiva.com/1945/pca9685-1945100.pdf; ComponentLink5URL: https://datasheet.ciiva.com/1945/pca9685-1945101.pdf; ComponentLink5Description: https://datasheet.ciiva.com/1945/pca9685-1945101.pdf; Supplier Part Number 1: 568-5305-1-ND
footprint SOT788-1
pins: 1 A3 (in), 2 A4 (in), 3 LED0 (out), 4 LED1 (out), 5 LED2 (out), 6 LED3 (out), 7 LED4 (out), 8 LED5 (out), 9 LED6 (out), 10 LED7 (out), 11 VSS, 12 LED8 (out), 13 LED9 (out), 14 LED10 (out), 15 LED11 (out), 16 LED12 (out), 17 LED13 (out), 18 LED14 (out), 19 LED15 (out), 20 ~{OE} (in), 21 A5 (in), 22 EXTCLK (in), 23 SCL (in), 24 SDA (io), 25 VDD, 26 A0 (in), 27 A1 (in), 28 A2 (in), 29 DAP

## IC_TPS62160QDSGRQ1
designator U?, comment TPS62160
Voltage Regulators - Switching Regulators 3V-17V 1A Automotiv Step-Down Converter; Manufacturer 1: Texas Instruments; Manufacturer Part Number 1: TPS62160QDSGRQ1; Output Voltage: 900 mV to 6 V; Number of Outputs: 1 Output; Input Voltage MAX: 17 V; Topology: Buck; Input Voltage MIN: 3 V; Switching Frequency: 2.25 MHz; Input Voltage: 12 V; Unit Weight: 0.000384 oz; Supplier 1: Digi-Key; Description 1: Voltage Regulators - Switching Regulators 3V-17V 1A Automotiv Step-Down Converter; Stock 1: 7326; Pricing 1: 1=2.21, 10=1.984, 100=1.595, 500=1.3104, 1000=1.0858 (USD); Product Category: Voltage Regulators - Switching Regulators; RoHS: True; Mounting Style: SMD/SMT; Package / Case: WSON-8; Output Current: 1 A; Maximum Operating Temperature: + 125 C; Series: TPS62160-Q1; Brand: Texas Instruments; Height: 0.8 mm; Length: 2 mm; Minimum Operating Temperature: - 40 C; Operating Temperature Range: - 40 C to + 125 C; Packaging: Reel; Product: Voltage Regulators; Shutdown: Shutdown; Factory Pack Quantity: 3000; Supply Voltage - Min: 3 V; Type: Voltage Converter; Width: 2 mm; ComponentLink1URL: http://www.ti.com/lit/ds/symlink/tps62160-q1.pdf; ComponentLink1Description: http://www.ti.com/lit/ds/symlink/tps62160-q1.pdf; ComponentLink2URL: http://www.ti.com/lit/gpn/tps62160-q1; ComponentLink2Description: http://www.ti.com/lit/gpn/tps62160-q1; ComponentLink3URL: http://www.ti.com/general/docs/lit/getliterature.tsp?genericPartNumber=TPS62160-Q1&&fileType=pdf; ComponentLink3Description: http://www.ti.com/general/docs/lit/getliterature.tsp?genericPartNumber=TPS62160-Q1&&fileType=pdf; Supplier Part Number 1: 296-40840-1-ND
footprint SON50P200X75_HS-9N (SON, 8-Leads, Body 2.00x2.00mm, Pitch 0.50mm, Thermal Pad 1.60x0.90mm, IPC Medium Density)
pins: 1 PGND, 2 VIN, 3 EN, 4 AGND, 5 FB, 6 VOS, 7 SW, 8 PG, 9 EPAD